# EAGLE library part TES3- (library traco-electronic)
DC/DC Converter Dual Output, 3W Source: Data sheet <http://www.tracopower.com/datasheet_g/tes3-d.pdf>
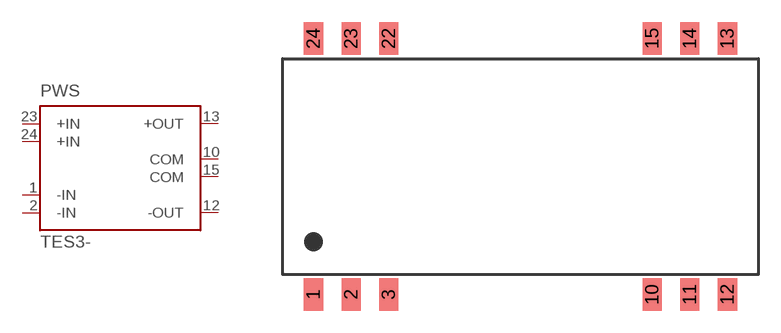
[diagram p3: symbol with the pads of TES3; footprint TES3]

Designator prefix PWS

## TES3-1222, TES3-1223, TES3-2422, TES3-2423, TES3-4822, TES3-4823  [TES3]
1  -IN  in
2  -IN  in
10  COM  pas
12  -OUT  out
13  +OUT  out
15  COM  pas
23  +IN  in
24  +IN  in

## Footprint TES3 (pad centres in mm)
DC/DC-Konverter TES 3 Serie, 3 W Source: Data sheet <http://www.tracopower.com/datasheet_g/tes3-d.pdf>
smd 1.3 x 2.2: 1 -13.97,-8.636; 2 -11.43,-8.636; 3 -8.89,-8.636; 10 8.89,-8.636; 11 11.43,-8.636; 12 13.97,-8.636; 13 13.97,8.636; 14 11.43,8.636; 15 8.89,8.636; 22 -8.89,8.636; 23 -11.43,8.636; 24 -13.97,8.636